# EAGLE library part *132 (library digital)
74xx132: Quad 2-input NAND gate With Schmitt trigger
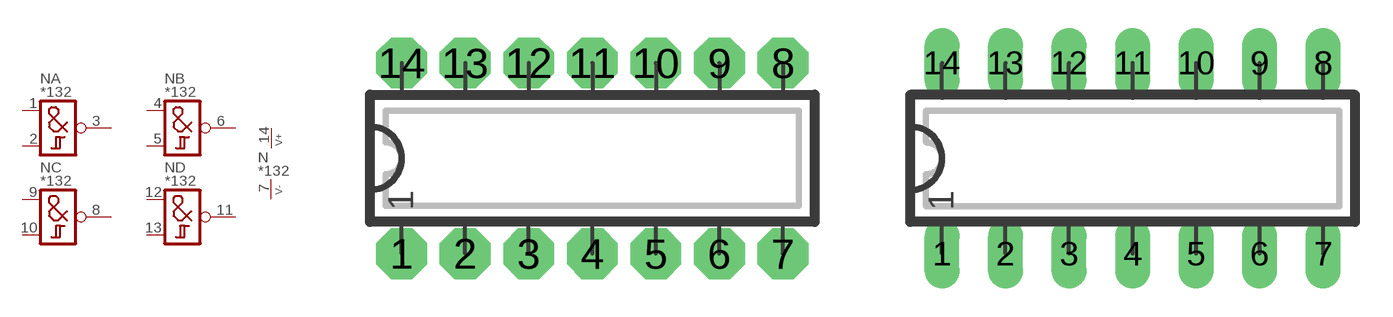
[diagram p29: symbol with the pads of DIP14N; footprints DIP14N, DIP14L]

Designator prefix N; gates A=NAND2_T B=NAND2_T C=NAND2_T D=NAND2_T P=V+-

## 74132N, 74ALS132N, 74HC132N, 74HCT132N, 74LS132N  [DIP14N]
1  A:I1  in
2  A:I2  in
3  A:O  out
4  B:I1  in
5  B:I2  in
6  B:O  out
7  P:V-  pwr
8  C:O  out
9  C:I1  in
10  C:I2  in
11  D:O  out
12  D:I1  in
13  D:I2  in
14  P:V+  pwr

## 74132, 74ALS132, 74HC132, 74HCT132, 74LS132  [DIP14L]
Pads as for DIP14N

## 74132L, 74ALS132L, 74HC132L, 74HCT132L, 74LS132L  [DIP14L]
Pads as for DIP14N

## 74HC132R, 74HCT132R  [DIP14R]
Pads as for DIP14N

## 74HC132S, 74HCT132S  [SO14]
Pads as for DIP14N

## Footprint DIP14N (pad centres in mm)
DIP-14 Standard IC package, 14 pins
drill 0.813 pad 2.032 octagon: 1 0,0; 2 2.54,0; 3 5.08,0; 4 7.62,0; 5 10.16,0; 6 12.7,0; 7 15.24,0; 8 15.24,7.62; 9 12.7,7.62; 10 10.16,7.62; 11 7.62,7.62; 12 5.08,7.62; 13 2.54,7.62; 14 0,7.62

## Footprint DIP14L (pad centres in mm)
DIP-14, long pads Standard IC package, 14 pins
drill 0.813 pad 1.397 long: 1 0,0; 2 2.54,0; 3 5.08,0; 4 7.62,0; 5 10.16,0; 6 12.7,0; 7 15.24,0; 8 15.24,7.62; 9 12.7,7.62; 10 10.16,7.62; 11 7.62,7.62; 12 5.08,7.62; 13 2.54,7.62; 14 0,7.62

## Footprint DIP14R (pad centres in mm)
DIP-14, reduced pads Standard IC package, 14 pins
drill 0.813 pad 1.397 square: 1 0,0; 2 2.54,0; 3 5.08,0; 4 7.62,0; 5 10.16,0; 6 12.7,0; 7 15.24,0; 8 15.24,7.62; 9 12.7,7.62; 10 10.16,7.62; 11 7.62,7.62; 12 5.08,7.62; 13 2.54,7.62; 14 0,7.62

## Footprint SO14 (pad centres in mm)
SO-14, SMD SOIC IC package, 14 pins
smd 0.635 x 1.778: 1 -3.81,-2.857; 2 -2.54,-2.857; 3 -1.27,-2.857; 4 0,-2.857; 5 1.27,-2.857; 6 2.54,-2.857; 7 3.81,-2.857; 8 3.81,2.857; 9 2.54,2.857; 10 1.27,2.857; 11 0,2.857; 12 -1.27,2.857; 13 -2.54,2.857; 14 -3.81,2.857